# Altium footprint library SA868.PcbLib: 1 footprints
Each footprint in its own frame and in the unit in brackets; x right, y up, seen from the top. Pads: shape width x height; smd on the part's side, far side on the other; paste and mask are expansions set on the pad; w line width, h text height; cw(c..) or ccw(c..) is an arc to the next point about the centre after c.
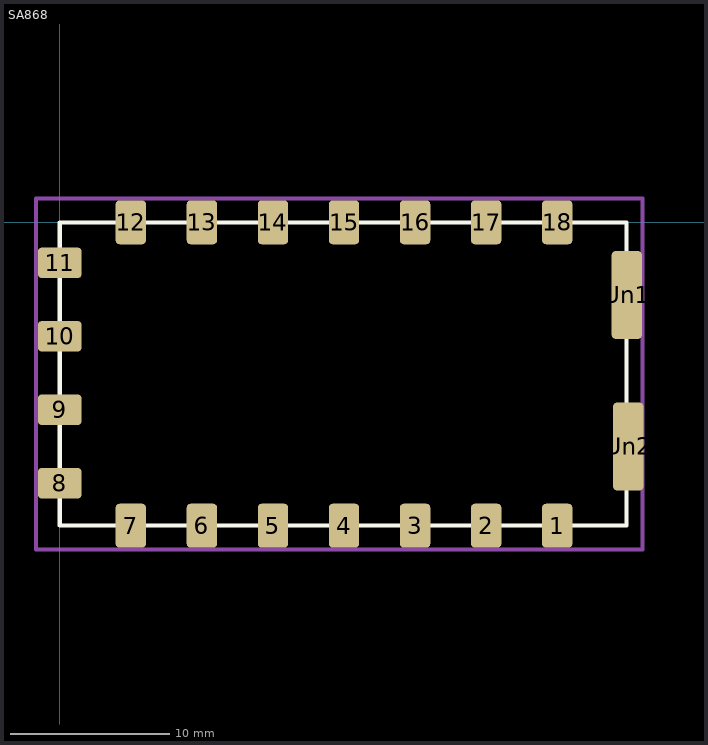
[diagram p0: the footprint, top view; thin cyan lines are the x and y axes]

## SA868 [mm]
pads (20):
  rrect25% 1.9x2.75 smd: 1(31.15,-19) 2(26.7,-19) 3(22.25,-19) 4(17.8,-19) 5(13.35,-19) 6(8.9,-19) 7(4.45,-19) 12(4.45,0) 13(8.9,0) 14(13.35,0) 15(17.8,0) 16(22.25,0) 17(26.7,0) 18(31.15,0)
  rrect25% 2.75x1.9 smd: 8(0,-16.34) 9(0,-11.74) 10(0,-7.14) 11(0,-2.54)
  rrect25% 1.9x5.5 smd: Un1(35.51,-4.55) Un2(35.6,-14.04)
F.SilkS:
  lines w0.254: 0,-19 35.5,-19 35.5,0 0,0 0,-19
F.CrtYd:
  lines w0.254: -1.5,-20.5 36.5,-20.5 36.5,1.5 -1.5,1.5 -1.5,-20.5
F.Fab:
  text "'.Designator'" at -1.439,-16.898 h1